# Altium footprint library RTTester.PcbLib: 37 footprints (part 1 of 3)
Each footprint in its own frame and in the unit in brackets; x right, y up, seen from the top. Pads: shape width x height; smd on the part's side, far side on the other; paste and mask are expansions set on the pad; w line width, h text height; cw(c..) or ccw(c..) is an arc to the next point about the centre after c.
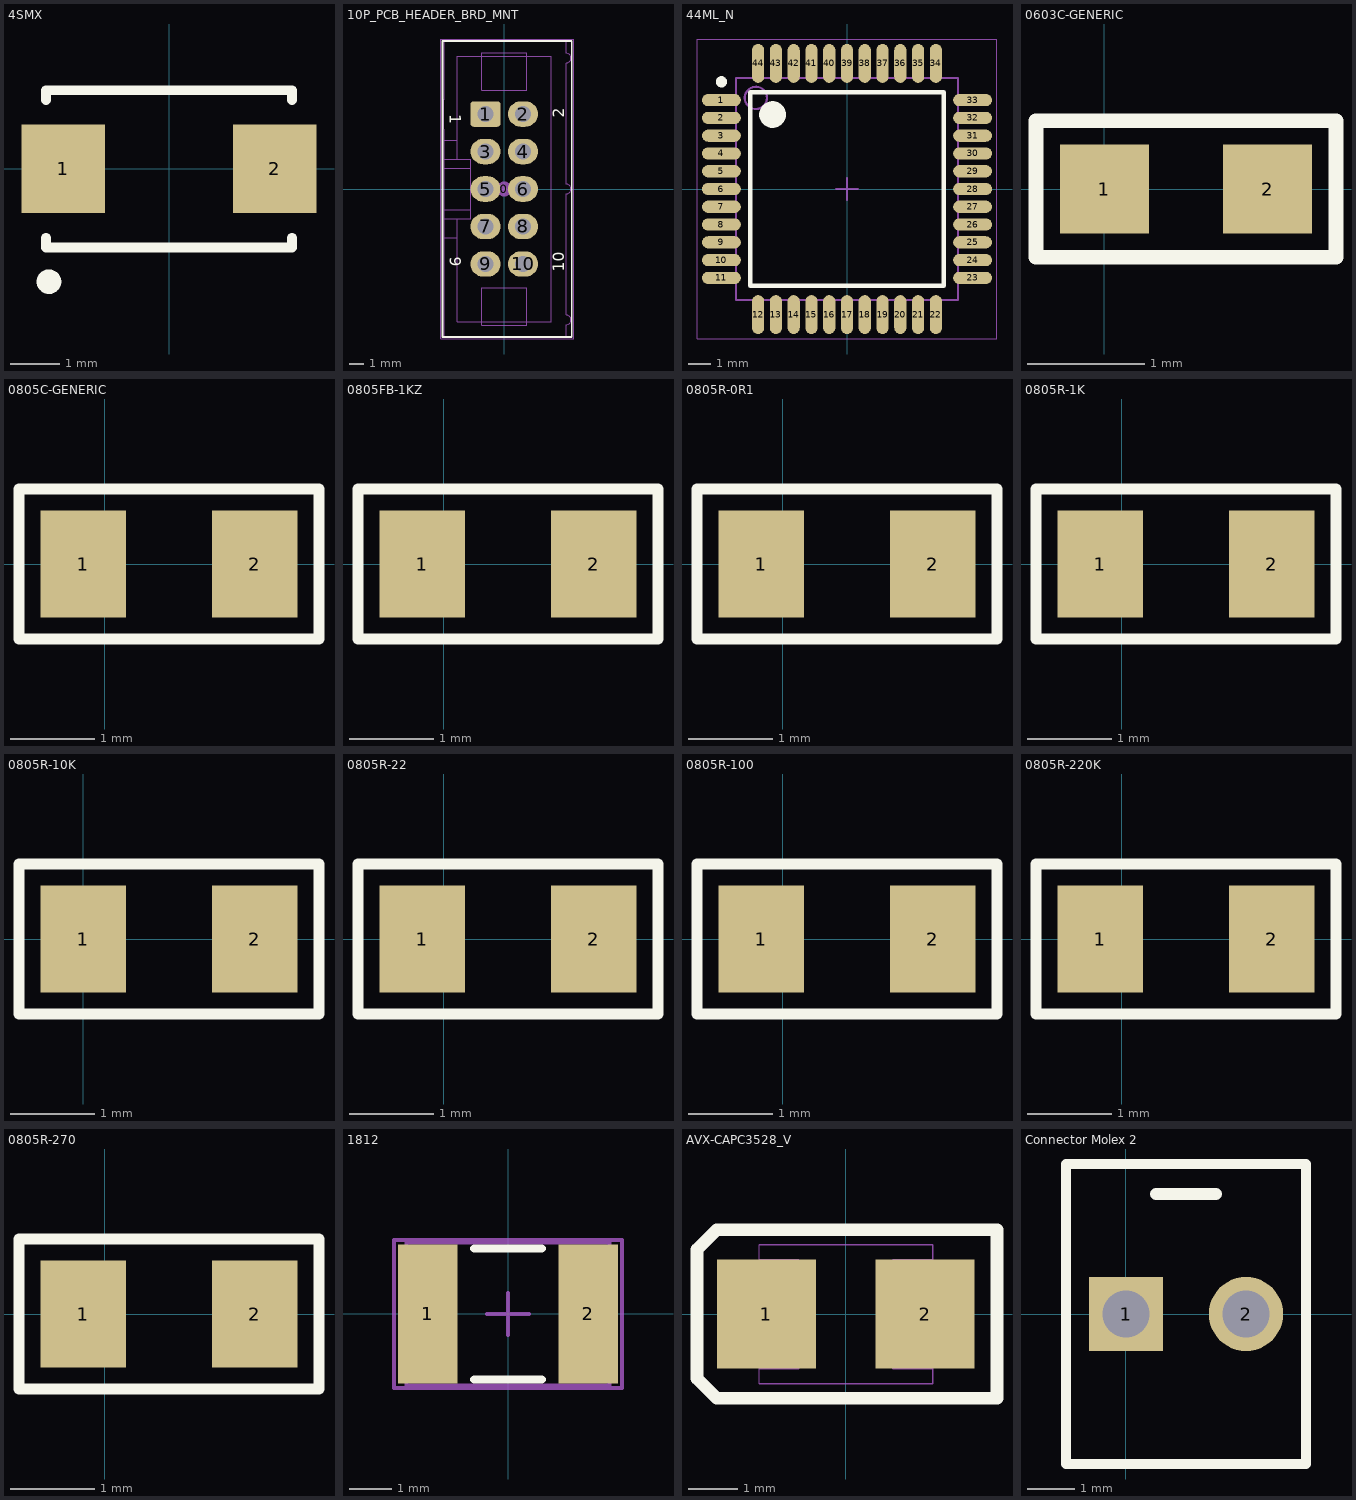
[diagram p0: the footprints below, top view; thin cyan lines are the x and y axes]

## 4SMX [mm] "Surface Mount Quartz Crystal; Body 5.2 x 3.4 mm (LxW max)"
height 1
pads (2):
  rect 1.7x1.8 smd: 1(-2.15,0) 2(2.15,0)
Top Overlay:
  circle w0.25: c-2.441,-2.293 r0.125
  lines w0.2: -2.5,-1.4 -2.5,-1.6 2.5,-1.6 2.5,-1.4 ; -2.5,1.4 -2.5,1.6 2.5,1.6 2.5,1.4

## 10P_PCB_HEADER_BRD_MNT [mil] "HEADER BRD MNT 10POS 2.54MM"
height 390
pads (11):
  round 40 on Mech15: 0(0,0)
  rrect25% 80x68 hole 42: 1(-50,200)
  oval 80x68 hole 42: 2(50,200) 3(-50,100) 4(50,100) 5(-50,0) 6(50,0) 7(-50,-100) 8(50,-100) 9(-50,-200) 10(50,-200)
Top Overlay:
  lines w5: -165,-395 -165,395 180,395 180,-395 -165,-395
  text "2" at 160,190 h30
  text "1" at -145,200 h30
  text "10" at 160,-220 h30
  text "9" at -145,-180 h30
Mechanical 13:
  drawing of 154 lines, arcs and shapes, not listed
Mechanical 15:
  lines w3: -170,-400 -170,400 185,400 185,-400 -170,-400
3D body: height 390, standoff -120, extent -161.99,-393.99 178.01,394.01

## 44ML_N [mm] "Thin QFP, 44-Leads, Body 10x10mm, Pitch 0.8mm, IPC Medium Density"
height 1.2
pads (44):
  oval 1.75x0.55 smd: 1(-5.65,4) 2(-5.65,3.2) 3(-5.65,2.4) 4(-5.65,1.6) 5(-5.65,0.8) 6(-5.65,0) 7(-5.65,-0.8) 8(-5.65,-1.6) 9(-5.65,-2.4) 10(-5.65,-3.2) 11(-5.65,-4) 23(5.65,-4) 24(5.65,-3.2) 25(5.65,-2.4) 26(5.65,-1.6) 27(5.65,-0.8) 28(5.65,0) 29(5.65,0.8) 30(5.65,1.6) 31(5.65,2.4) 32(5.65,3.2) 33(5.65,4)
  oval 0.55x1.75 smd: 12(-4,-5.65) 13(-3.2,-5.65) 14(-2.4,-5.65) 15(-1.6,-5.65) 16(-0.8,-5.65) 17(0,-5.65) 18(0.8,-5.65) 19(1.6,-5.65) 20(2.4,-5.65) 21(3.2,-5.65) 22(4,-5.65) 34(4,5.65) 35(3.2,5.65) 36(2.4,5.65) 37(1.6,5.65) 38(0.8,5.65) 39(0,5.65) 40(-0.8,5.65) 41(-1.6,5.65) 42(-2.4,5.65) 43(-3.2,5.65) 44(-4,5.65)
Top Overlay:
  circle w0.25: c-5.65,4.825 r0.125
  circle w0.6: c-3.35,3.35 r0.3
  lines w0.2: -4.35,-4.35 -4.35,4.35 4.35,4.35 4.35,-4.35 -4.35,-4.35
Mechanical 13:
  circle w0.1: c-4.1,4.1 r0.5
  lines w0.1: -5,-5 -5,5 5,5 5,-5 -5,-5
Mechanical 15:
  lines w0.05: -6.75,-6.75 -6.75,6.75 6.75,6.75 6.75,-6.75 -6.75,-6.75
  lines w0.1: -0.5,0 0.5,0 ; 0,-0.5 0,0.5
3D body: height 1.2, standoff 0, extent -5,-5 5,5

## 0603C-GENERIC [mil] "CAPACITOR 0603"
pads (2):
  rect 30x30 smd: 1(0,0) 2(55,0)
Top Overlay:
  lines w5: -23,-23 78,-23 78,23 -23,23 -23,-23
3D body: height 11, standoff 10, extent 44.5,-12 49.5,-2
3D body: height 18, standoff 0, extent -3,-14 58,14
3D body: height 19, standoff 0, extent 43,-15 59,15
3D body: height 19, standoff 0, extent -4,-15 12,15
3D body: height 11, standoff 10, extent 29.5,-12 34.5,-2
3D body: height 11, standoff 10, extent 29.5,3 34.5,13
3D body: height 11, standoff 10, extent 22,3 27,13
3D body: height 11, standoff 10, extent 7,3 12,13
3D body: height 11, standoff 10, extent 14.5,3 19.5,13
3D body: height 11, standoff 10, extent 37,3 42,13
3D body: height 11, standoff 10, extent 44.5,3 49.5,13
3D body: height 11, standoff 10, extent 22,-12 27,-2
3D body: height 11, standoff 10, extent 14.5,-12 19.5,-2
3D body: height 11, standoff 10, extent 7,-12 12,-2

## 0805C-GENERIC [mil] "CAPACITOR 0805"
height 47.24
pads (2):
  rect 40x50 smd: 1(-10,0) 2(70,0)
Top Overlay:
  lines w5: -40,-35 100,-35 100,35 -40,35 -40,-35
3D body: height 23, standoff 22, extent 45,2.5 52.5,17.5
3D body: height 23, standoff 22, extent 35,2.5 42.5,17.5
3D body: height 23, standoff 22, extent 10.5,-15 18,0
3D body: height 23, standoff 22, extent -5,2.5 2.5,17.5
3D body: height 23, standoff 22, extent 5,2.5 12.5,17.5
3D body: height 23, standoff 22, extent 15,2.5 22.5,17.5
3D body: height 23, standoff 22, extent 25,2.5 32.5,17.5
3D body: height 23, standoff 22, extent 20.5,-15 28,0
3D body: height 23, standoff 22, extent 0.5,-15 8,0
3D body: height 23, standoff 22, extent 30.5,-15 38,0
3D body: height 23, standoff 22, extent 40.5,-15 48,0
3D body: height 25, standoff 0, extent -10,-24 69,24
3D body: height 26, standoff 0, extent -11,-25 5,25
3D body: height 26, standoff 0, extent 54,-25 70,25

## 0805FB-1KZ [mil] "FERRITE BEAD 0805"
height 47.24
pads (2):
  rect 40x50 smd: 1(-10,0) 2(70,0)
Top Overlay:
  lines w5: -40,-35 -40,35 100,35 100,-35 -40,-35
3D body: height 26, standoff 0, extent 54,-25 70,25
3D body: height 26, standoff 0, extent -11,-25 5,25
3D body: height 25, standoff 0, extent -10,-24 69,24
3D body: height 26, standoff 25, extent 27.5,-5.5 32.5,4.5
3D body: height 26, standoff 25, extent 35,-5.5 40,4.5
3D body: height 26, standoff 25, extent 20,-5.5 25,4.5

## 0805R-0R1 [mil] "RESISTOR 0805"
pads (2):
  rect 40x50 smd: 1(-10,0) 2(70,0)
Top Overlay:
  lines w5: -40,-35 100,-35 100,35 -40,35 -40,-35
3D body: height 27, standoff 26, extent 34.5,-7 42,8
3D body: height 27, standoff 26, extent 14.5,-7 22,8
3D body: height 26, standoff 0, extent 54,-25 70,25
3D body: height 26, standoff 25, extent 5,-22 54,22
3D body: height 26, standoff 0, extent -11,-25 5,25
3D body: height 25, standoff 0, extent -10,-24 69,24
3D body: height 27, standoff 26, extent 24.5,-7 32,8

## 0805R-1K [mil] "RESISTOR 0805"
pads (2):
  rect 40x50 smd: 1(-10,0) 2(70,0)
Top Overlay:
  lines w5: -40,-35 -40,35 100,35 100,-35 -40,-35
3D body: height 27, standoff 26, extent 35.5,-7.5 43,7.5
3D body: height 25, standoff 0, extent -10,-24 69,24
3D body: height 26, standoff 0, extent -11,-25 5,25
3D body: height 26, standoff 25, extent 5,-22 54,22
3D body: height 26, standoff 0, extent 54,-25 70,25
3D body: height 27, standoff 26, extent 25.5,-7.5 33,7.5
3D body: height 27, standoff 26, extent 15.5,-7.5 23,7.5

## 0805R-10K [mil] "RESISTOR 0805"
pads (2):
  rect 40x50 smd: 1(0,0) 2(80,0)
Top Overlay:
  lines w5: -30,-35 -30,35 110,35 110,-35 -30,-35
3D body: height 25, standoff 0, extent 0,-24 79,24
3D body: height 26, standoff 0, extent -1,-25 15,25
3D body: height 26, standoff 25, extent 15,-22 64,22
3D body: height 26, standoff 0, extent 64,-25 80,25
3D body: height 27, standoff 26, extent 35.5,-7.5 43,7.5
3D body: height 27, standoff 26, extent 25.5,-7.5 33,7.5
3D body: height 27, standoff 26, extent 45.5,-7.5 53,7.5

## 0805R-22 [mil] "RESISTOR 0805"
pads (2):
  rect 40x50 smd: 1(-10,0) 2(70,0)
Top Overlay:
  lines w5: -40,-35 100,-35 100,35 -40,35 -40,-35
3D body: height 27, standoff 26, extent 35.5,-7 43,8
3D body: height 27, standoff 26, extent 25.5,-7.5 33,7.5
3D body: height 27, standoff 26, extent 15.5,-7.5 23,7.5
3D body: height 26, standoff 0, extent 54,-25 70,25
3D body: height 26, standoff 25, extent 5,-22 54,22
3D body: height 26, standoff 0, extent -11,-25 5,25
3D body: height 25, standoff 0, extent -10,-24 69,24

## 0805R-100 [mil] "RESISTOR 0805"
pads (2):
  rect 40x50 smd: 1(-10,0) 2(70,0)
Top Overlay:
  lines w5: -40,-35 100,-35 100,35 -40,35 -40,-35
3D body: height 27, standoff 26, extent 15.5,-7.5 23,7.5
3D body: height 27, standoff 26, extent 25.5,-7.5 33,7.5
3D body: height 26, standoff 0, extent 54,-25 70,25
3D body: height 26, standoff 25, extent 5,-22 54,22
3D body: height 26, standoff 0, extent -11,-25 5,25
3D body: height 25, standoff 0, extent -10,-24 69,24
3D body: height 27, standoff 26, extent 35.5,-7.5 43,7.5

## 0805R-220K [mil] "RESISTOR 0805"
pads (2):
  rect 40x50 smd: 1(-10,0) 2(70,0)
Top Overlay:
  lines w5: -40,-35 100,-35 100,35 -40,35 -40,-35
3D body: height 27, standoff 26, extent 25.5,-7.5 33,7.5
3D body: height 27, standoff 26, extent 15.5,-7.5 23,7.5
3D body: height 26, standoff 0, extent 54,-25 70,25
3D body: height 26, standoff 25, extent 5,-22 54,22
3D body: height 26, standoff 0, extent -11,-25 5,25
3D body: height 25, standoff 0, extent -10,-24 69,24
3D body: height 27, standoff 26, extent 35.5,-7.5 43,7.5

## 0805R-270 [mil] "RESISTOR 0805"
pads (2):
  rect 40x50 smd: 1(-10,0) 2(70,0)
Top Overlay:
  lines w5: -40,-35 100,-35 100,35 -40,35 -40,-35
3D body: height 27, standoff 26, extent 15.5,-7.5 23,7.5
3D body: height 27, standoff 26, extent 25.5,-7.5 33,7.5
3D body: height 27, standoff 26, extent 35.5,-7.5 43,7.5
3D body: height 26, standoff 0, extent 54,-25 70,25
3D body: height 26, standoff 25, extent 5,-22 54,22
3D body: height 26, standoff 0, extent -11,-25 5,25
3D body: height 25, standoff 0, extent -10,-24 69,24

## 1812 [mm] "Chip Capacitor, Body 4.5x3.2mm, IPC High Density"
height 1.4
pads (2):
  rect 1.4x3.3 smd: 1(-1.9,0) 2(1.9,0)
Top Overlay:
  lines w0.2: -0.8,-1.55 0.8,-1.55 ; -0.8,1.55 0.8,1.55
Mechanical 13:
  lines w0.1: -2.4,-1.7 2.4,-1.7 2.4,1.7 -2.4,1.7 -2.4,-1.7
Mechanical 15:
  lines w0.1: -0.5,0 0.5,0 ; 0,-0.5 0,0.5 ; -2.7,-1.75 2.7,-1.75 2.7,1.75 -2.7,1.75 -2.7,-1.75
3D body: height 1.4, standoff 0, extent -2.4,-1.7 2.4,1.7

## AVX-CAPC3528_V [mm]
pads (2):
  rect 2x2.2 smd: 1(-1.6,0) 2(1.6,0)
Top Overlay:
  lines w0.254: -3,-1.3 -2.6,-1.7 3.05,-1.7 3.05,1.7 -2.6,1.7 -3,1.3 -3,-1.3
Mechanical 7:
  lines w0.025: -1.748,-1.404 1.752,-1.404 1.752,1.396 -1.748,1.396 ; -1.748,-1.104 -0.948,-1.104 -0.948,1.096 -1.748,1.096 ; -1.748,-1.404 -1.748,1.396 ; 1.752,-1.104 0.952,-1.104 0.952,1.096 1.752,1.096
3D body: height 0.3, standoff 0, extent -1.793,-0.665 -1.568,0.824
3D body: height 0.3, standoff 0, extent 1.578,-0.658 1.803,0.768
3D body: height 1.9, standoff 0, extent -1.704,-1.539 1.763,1.537

## Connector Molex 2 [mil] "TERM BLOCK HDR 2POS 3.81MM"
height 362.2
pads (2):
  rect 62x62 hole 39.4: 1(0,0)
  round 62 hole 39.4: 2(100,0)
Top Overlay:
  lines w8: -50,-125 -50,125 150,125 150,-125 -50,-125
  lines w10: 25,100 75,100
3D body: height 453.38, standoff -133.24, extent -49.99,-129.17 150.01,99.18